# Altium schematic symbol library mcu_stm32.SchLib: 42 symbols (part 5 of 5)
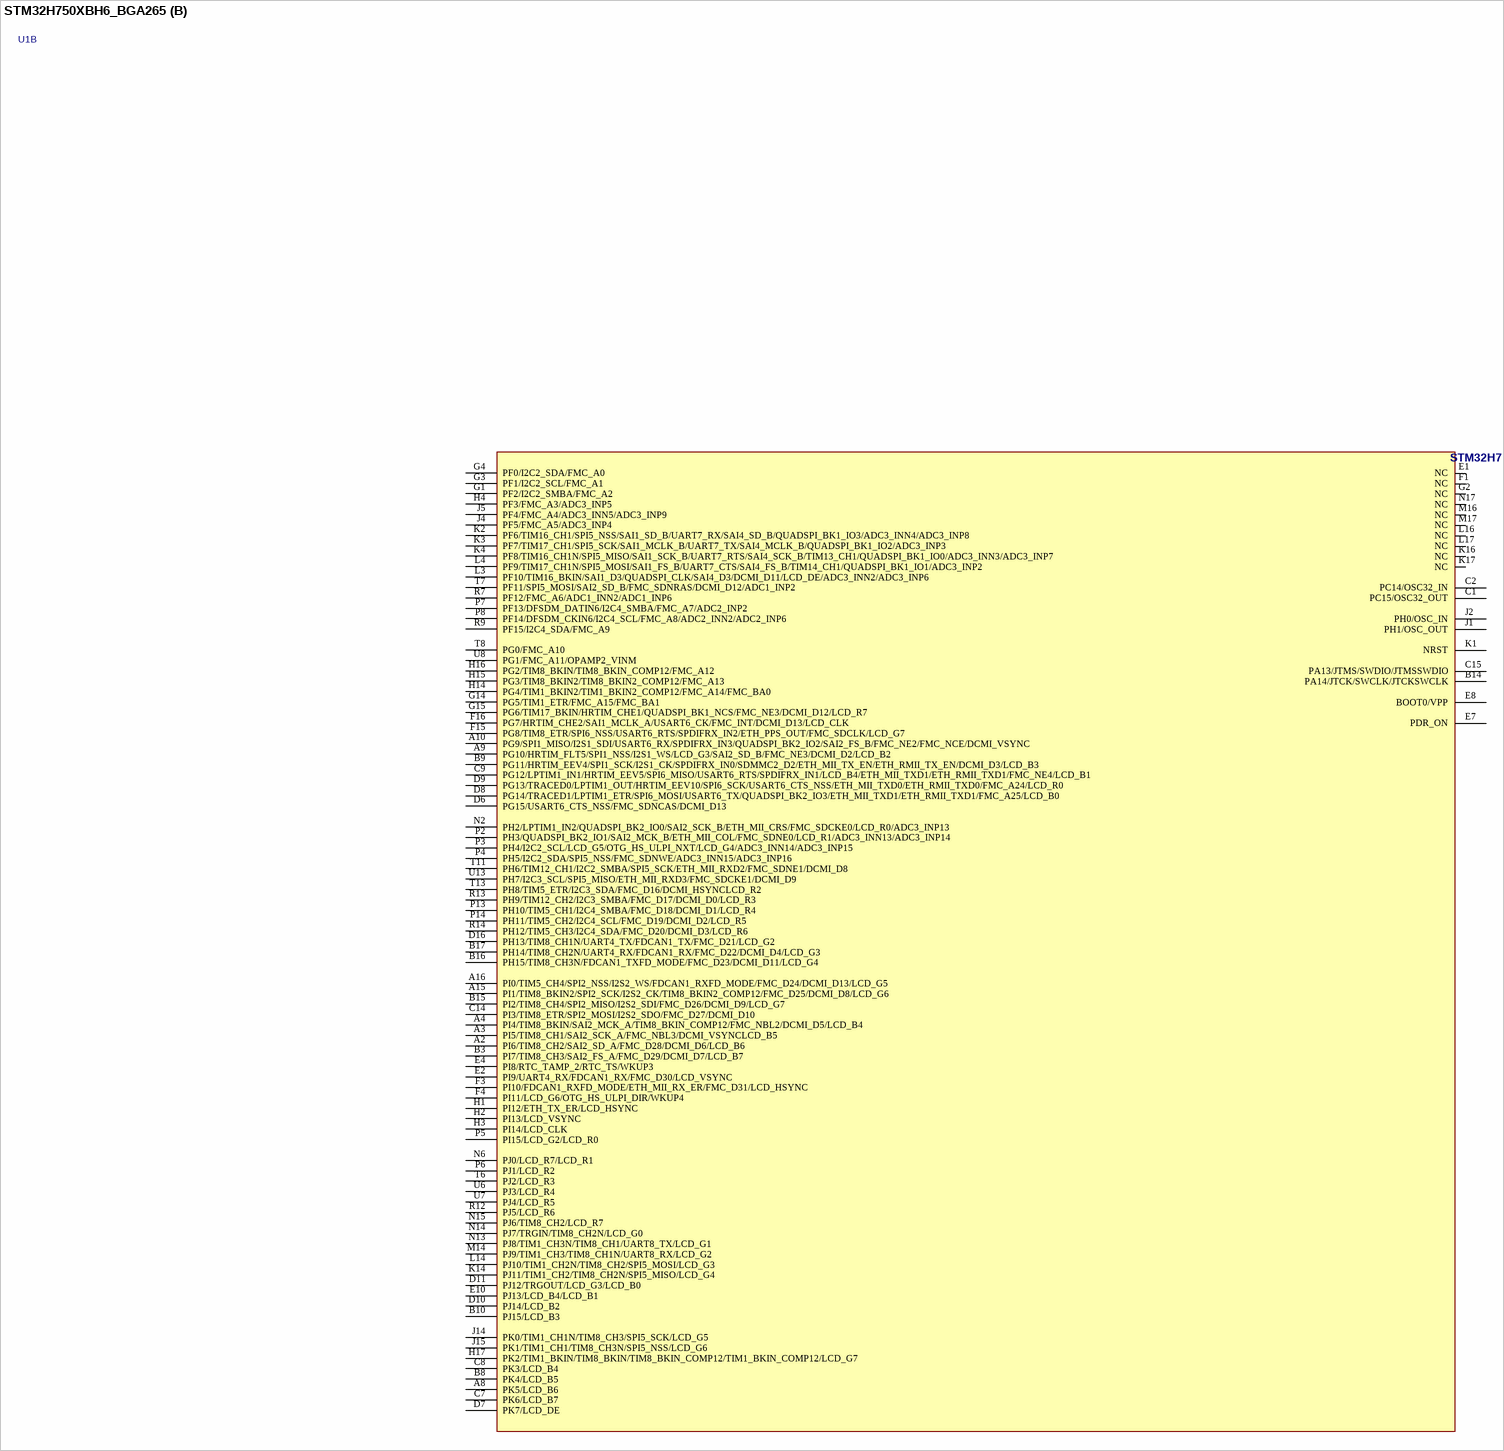
[diagram p33: symbol STM32H750XBH6_BGA265]

## STM32H750XBH6_BGA265
designator U1, comment STM32H750  (value not drawn)
MCU, STM32 ARM 32-bit, Cortex M7, 128KB FLASH, 1MB SRAM; DESC: USB_OTG HS/FS, Ethernet, 3 ADCs, DAC, CAN, I2C, SPI, UART, camera, LCD; MANF: ST; MANF_P#: STM32H750XBH6; PARAM2: 2~3.6VCC, 400MHz, 3X16Bit 4.5MSPS ADC, 2X12Bit 1MHz DAC; PARAM: 2MB FLASH, 1MB SRAM, -40~105oC; PRICE: 11$; VALUE: STM32H750; PACKAGE: BGA-265
footprint BGA80_265_S14 (TFBGA240+25, pitch 0.8mm, 14x14x1.1mm)
part A pins: A1 VSS, A5 PB5/TIM17_BKIN/TIM3_CH2/HRTIM_EEV7/I2C1_SMBA/SPI1_MOSI/I2S1_SDO/I2C4_SMBA/SPI3_MOSI/I2S3_SDO/SPI6_MOSI/FDCAN2_RX/OTG_HS_ULPI_D7/ETH_PPS_OUT/FMC_SDCKE1/DCMI_D10/UART5_RX, A6 VDDLDO, A7 VCAP, A11 PD5/HRTIM_EEV3/USART2_TX/FDCAN1_TXFD_MODE/FMC_NWE, A12 PD4/HRTIM_FLT3/SAI3_FS_A/USART2_RTS/FDCAN1_RXFD_MODE/FMC_NOE, A13 PC10/HRTIM_EEV1/DFSDM_CKIN5/SPI3_SCK/I2S3_CK/USART3_TX/UART4_TX/QUADSPI_BK1_IO1/SDMMC1_D2/DCMI_D8/LCD_R2, A14 PA15/JTDI/JTDI/TIM2_CH1/TIM2_ETR/HRTIM_FLT1/HDMI_CEC/SPI1_NSS/I2S1_WS/SPI3_NSS/I2S3_WS/SPI6_NSS/UART4_RTS/UART7_TX, A17 VSS, B1 VBAT, B2 VSS, B4 PE1/LPTIM1_IN2/HRTIM_SCOUT/UART8_TX/FDCAN1_TXFD_MODE/FMC_NBL1/DCMI_D3, B5 PB6/TIM16_CH1N/TIM4_CH1/HRTIM_EEV8/I2C1_SCL/HDMI_CEC/I2C4_SCL/USART1_TX/LPUART1_TX/FDCAN2_TX/QUADSPI_BK1_NCS/DFSDM_DATIN5/FMC_SDNE1/DCMI_D5/UART5_TX, B6 VSS, B7 PB4/NJTRST/NJTRST/TIM16_BKIN/TIM3_CH1/HRTIM_EEV6/SPI1_MISO/I2S1_SDI/SPI3_MISO/I2S3_SDI/SPI2_NSS/I2S2_WS/SPI6_MISO/SDMMC2_D3/UART7_TX, B11 PD6/SAI1_D1/DFSDM_CKIN4/DFSDM_DATIN1/SPI3_MOSI/I2S3_SDO/SAI1_SD_A/USART2_RX/SAI4_SD_A/FDCAN2_RXFD_MODE/SAI4_D1/SDMMC2_CK/FMC_NWAIT/DCMI_D10/LCD_B2, B12 PD3/DFSDM_CKOUT/SPI2_SCK/I2S2_CK/USART2_CTS_NSS/FMC_CLK/DCMI_D5/LCD_G7, B13 PC11/HRTIM_FLT2/DFSDM_DATIN5/SPI3_MISO/I2S3_SDI/USART3_RX/UART4_RX/QUADSPI_BK2_NCS/SDMMC1_D3/DCMI_D4, C3 PE2/TRACECLK/SAI1_CK1/SPI4_SCK/SAI1_MCLK_A/SAI4_MCLK_A/QUADSPI_BK1_IO2/SAI4_CK1/ETH_MII_TXD3/FMC_A23, C4 PE0/LPTIM1_ETR/TIM4_ETR/HRTIM_SCIN/LPTIM2_ETR/UART8_RX/FDCAN1_RXFD_MODE/SAI2_MCK_A/FMC_NBL0/DCMI_D2, C5 PB7/TIM17_CH1N/TIM4_CH2/HRTIM_EEV9/I2C1_SDA/I2C4_SDA/USART1_RX/LPUART1_RX/FDCAN2_TXFD_MODE/DFSDM_CKIN5/FMC_NL/DCMI_VSYNCPVD_IN, C6 PB3/JTDO/TRACESWO/JTDO/TRACESWO/TIM2CH2/HRTIM_FLT4/SPI1_SCK/I2S1_CK/SPI3_SCK/I2S3_CK/SPI6_SCK/SDMMC2_D2/UART7_RX, C10 VSS, C11 PD7/DFSDM_DATIN4/SPI1_MOSI/I2S1_SDO/DFSDM_CKIN1/USART2_CK/SPDIFRX_IN0/SDMMC2_CMD/FMC_NE1, C12 PC12/TRACED3/HRTIM_EEV2/SPI3_MOSI/I2S3_SDO/USART3_CK/UART5_TX/SDMMC1_CK/DCMI_D9, C13 VSS, C16 VSS, C17 VDDLDO, D1 PE5/TRACED2/SAI1_CK2/DFSDM_CKIN3/TIM15_CH1/SPI4_MISO/SAI1_SCK_A/SAI4_SCK_A/SAI4_CK2/FMC_A21/DCMI_D6/LCD_G0, D2 PE4/TRACED1/SAI1_D2/DFSDM_DATIN3/TIM15_CH1N/SPI4_NSS/SAI1_FS_A/SAI4_FS_A/SAI4_D2/FMC_A20/DCMI_D4/LCD_B0, D3 PE3/TRACED0/TIM15_BKIN/SAI1_SD_B/SAI4_SD_B/FMC_A19, D4 PB9/TIM17_CH1/TIM4_CH4/DFSDM_DATIN7/I2C1_SDA/SPI2_NSS/I2S2_WS/I2C4_SDA/SDMMC1_CDIR/UART4_TX/FDCAN1_TX/SDMMC2_D5/I2C4_SMBA/SDMMC1_D5/DCMI_D7/LCD_B7, D5 PB8/TIM16_CH1/TIM4_CH3/DFSDM_CKIN7/I2C1_SCL/I2C4_SCL/SDMMC1_CKIN/UART4_RX/FDCAN1_RX/SDMMC2_D4/ETH_MII_TXD3/SDMMC1_D4/DCMI_D6/LCD_B6, D12 PD2/TRACED2/TIM3_ETR/UART5_RX/SDMMC1_CMD/DCMI_D11, D13 PD0/DFSDM_CKIN6/SAI3_SCK_A/UART4_RX/FDCAN1_RX/FMC_D2/FMC_DA2, D14 PA10/TIM1_CH3/HRTIM_CHC2/LPUART1_RX/USART1_RX/FDCAN1_TXFD_MODE/OTG_FS_ID/MDIOS_MDIO/LCD_B4/DCMI_D1/LCD_B1, D15 PA9/TIM1_CH2/HRTIM_CHC1/LPUART1_TX/I2C3_SMBA/SPI2_SCK/I2S2_CK/USART1_TX/FDCAN1_RXFD_MODE/ETH_TX_ER/DCMI_D0/LCD_R5/OTG_FS_VBUS, D17 VCAP, E3 PC13/RTC_TAMP_1/RTC_TS/WKUP2, E5 PE6/TRACED3/TIM1_BKIN2/SAI1_D1/TIM15_CH2/SPI4_MOSI/SAI1_SD_A/SAI4_SD_A/SAI4_D1/SAI2_MCK_B/TIM1_BKIN2_COMP12/FMC_A22/DCMI_D7/LCD_G1, E6 VDD, E9 VDD, E11 VDD, E12 PD1/DFSDM_DATIN6/SAI3_SD_A/UART4_TX/FDCAN1_TX/FMC_D3/FMC_DA3, E13 PC8/TRACED1/HRTIM_CHB1/TIM3_CH3/TIM8_CH3/USART6_CK/UART5_RTS/FMC_NE2/FMC_NCE/SWPMI_RX/SDMMC1_D0/DCMI_D2, E14 PC9/MCO2/TIM3_CH4/TIM8_CH4/I2C3_SDA/I2S_CKIN/UART5_CTS/QUADSPI_BK1_IO0/LCD_G3/SWPMI_SUSPEND/SDMMC1_D1/DCMI_D3/LCD_B2, E15 PA8/MCO1/TIM1_CH1/HRTIM_CHB2/TIM8_BKIN2/I2C3_SCL/USART1_CK/OTG_FS_SOF/UART7_RX/TIM8_BKIN2_COMP12/LCD_B3/LCD_R6, E16 PA12/TIM1_ETR/HRTIM_CHD2/LPUART1_RTS/SPI2_SCK/I2S2_CK/UART4_TX/USART1_RTS/SAI2_FS_B/FDCAN1_TX/OTG_FS_DP/LCD_R5, E17 PA11/TIM1_CH4/HRTIM_CHD1/LPUART1_CTS/SPI2_NSS/I2S2_WS/UART4_RX/USART1_CTS_NSS/FDCAN1_RX/OTG_FS_DM/LCD_R4, F2 VSS, F5 VDD, F13 PC7/TRGIO/HRTIM_CHA2/TIM3_CH2/TIM8_CH2/DFSDM_DATIN3/I2S3_MCK/USART6_RX/SDMMC1_D123DIR/FMC_NE1/SDMMC2_D7/SWPMI_TX/SDMMC1_D7/DCMI_D1/LCD_G6, F14 PC6/HRTIM_CHA1/TIM3_CH1/TIM8_CH1/DFSDM_CKIN3/I2S2_MCK/USART6_TX/SDMMC1_D0DIR/FMC_NWAIT/SDMMC2_D6/SDMMC1_D6/DCMI_D0/LCD_HSYNCSWPMI_IO, F17 VDD33USB, G5 VDD, G7 VSS, G8 VSS, G9 VSS, G10 VSS, G11 VSS, G13 VDD, G16 VSS, G17 VDD50USB, H5 VDD, H7 VSS, H8 VSS, H9 VSS, H10 VSS, H11 VSS, H13 VDD, J3 VSS, J7 VSS, J8 VSS, J9 VSS, J10 VSS, J11 VSS, J13 VDD, J16 VSS, J17 VSS, K5 VDD, K7 VSS, K8 VSS, K9 VSS, K10 VSS, K11 VSS, K13 VDD, K15 VSS, L1 VDDA, L2 PC0/DFSDM_CKIN0/DFSDM_DATIN4/SAI2_FS_B/OTG_HS_ULPI_STP/FMC_SDNWE/LCD_R5/ADC123_INP10, L5 VDD, L7 VSS, L8 VSS, L9 VSS, L10 VSS, L11 VSS, L13 VDD, L15 VSS, M1 VREF+, M2 PC1/TRACED0/SAI1_D1/DFSDM_DATIN0/DFSDM_CKIN4/SPI2_MOSI/I2S2_SDO/SAI1_SD_A/SAI4_SD_A/SDMMC2_CK/SAI4_D1/ETH_MDC/MDIOS_MDC/ADC123_INN10/ADC123_INP11/RTC_TAMP_3/WKUP5, M3 PC2/DFSDM_CKIN1/SPI2_MISO/I2S2_SDI/DFSDM_CKOUT/OTG_HS_ULPI_DIR/ETH_MII_TXD2/FMC_SDNE0/ADC123_INN11/ADC123_INP12, M4 PC3/DFSDM_DATIN1/SPI2_MOSI/I2S2_SDO/OTG_HS_ULPI_NXT/ETH_MII_TX_CLK/FMC_SDCKE0/ADC12_INN12/ADC12_INP13, M5 VDD, M13 VDD, M15 VSS, N1 VREF-, N3 PA2/TIM2_CH3/TIM5_CH3/LPTIM4_OUT/TIM15_CH1/USART2_TX/SAI2_SCK_B/ETH_MDIO/MDIOS_MDIO/LCD_R1/ADC12_INP14/WKUP1, N4 PA1/TIM2_CH2/TIM5_CH2/LPTIM3_OUT/TIM15_CH1N/USART2_RTS/UART4_RX/QUADSPI_BK1_IO3/SAI2_MCK_B/ETH_MII_RX_CLK/ETH_RMII_REF_CLK/LCD_R2/ADC1_INN16/ADC1_INP17, N5 PA0/TIM2_CH1/TIM2_ETR/TIM5_CH1/TIM8_ETR/TIM15_BKIN/USART2_CTS_NSS/UART4_TX/SDMMC2_CMD/SAI2_SD_B/ETH_MII_CRS/ADC1_INP16/WKUP0, N7 VDD, N8 VDD, N9 PE10/TIM1_CH2N/DFSDM_DATIN4/UART7_CTS/QUADSPI_BK2_IO3/FMC_D7/FMC_DA7/COMP_2_INM, N10 VDD, N11 VDD, N12 VDD, N16 VSS, P1 VSSA, P9 PE9/TIM1_CH1/DFSDM_CKOUT/UART7_RTS/QUADSPI_BK2_IO2/FMC_D6/FMC_DA6/OPAMP2_VINP/COMP_2_INP, P10 PE11/TIM1_CH2/DFSDM_CKIN4/SPI4_NSS/SAI2_SD_B/FMC_D8/FMC_DA8/LCD_G3/COMP_2_INP, P11 PB10/TIM2_CH3/HRTIM_SCOUT/LPTIM2_IN1/I2C2_SCL/SPI2_SCK/I2S2_CK/DFSDM_DATIN7/USART3_TX/QUADSPI_BK1_NCS/OTG_HS_ULPI_D3/ETH_MII_RX_ER/LCD_G4, P12 PB11/TIM2_CH4/HRTIM_SCIN/LPTIM2_ETR/I2C2_SDA/DFSDM_CKIN7/USART3_RX/OTG_HS_ULPI_D4/ETH_MII_TX_EN/ETH_RMII_TX_EN/LCD_G5, P15 PD15/TIM4_CH4/SAI3_MCLK_A/UART8_RTS/FMC_D1/FMC_DA1, P16 PD14/TIM4_CH3/SAI3_MCLK_B/UART8_CTS/FMC_D0/FMC_DA0, P17 VDD, R1 PC2_C/ADC3_INN1/ADC3_INP0, R2 PC3_C/ADC3_INP1, R3 PA6/TIM1_BKIN/TIM3_CH1/TIM8_BKIN/SPI1_MISO/I2S1_SDI/SPI6_MISO/TIM13_CH1/TIM8_BKIN_COMP12/MDIOS_MDC/TIM1_BKIN_COMP12/DCMI_PIXCLK/LCD_G2/ADC12_INP3, R4 VSS, R5 PA7/TIM1_CH1N/TIM3_CH2/TIM8_CH1N/SPI1_MOSI/I2S1_SDO/SPI6_MOSI/TIM14_CH1/ETH_MII_RX_DV/ETH_RMII_CRS_DV/FMC_SDNWE/ADC12_INN3/ADC12_INP7/OPAMP1_VINM, R6 PB2/SAI1_D1/DFSDM_CKIN1/SAI1_SD_A/SPI3_MOSI/I2S3_SDO/SAI4_SD_A/QUADSPI_CLK/SAI4_D1/ETH_TX_ER/COMP_1_INP/RTC_OUT, R8 VSS, R10 PE12/TIM1_CH3N/DFSDM_DATIN5/SPI4_SCK/SAI2_SCK_B/FMC_D9/FMC_DA9/COMP_1_OUT/LCD_B4, R11 PE15/TIM1_BKIN/HDMI__TIM1_BKIN/FMC_D12/FMC_DA12/TIM1_BKIN_COMP12/LCD_R7, R15 PD11/LPTIM2_IN2/I2C4_SMBA/USART3_CTS_NSS/QUADSPI_BK1_IO0/SAI2_SD_A/FMC_A16, R16 PD12/LPTIM1_IN1/TIM4_CH1/LPTIM2_IN1/I2C4_SCL/USART3_RTS/QUADSPI_BK1_IO1/SAI2_FS_A/FMC_A17, R17 PD13/LPTIM1_OUT/TIM4_CH2/I2C4_SDA/QUADSPI_BK1_IO3/SAI2_SCK_A/FMC_A18, T1 PA0_C/ADC12_INN1/ADC12_INP0, T2 PA1_C/ADC12_INP1, T3 PA5/TIM2_CH1/TIM2_ETR/TIM8_CH1N/SPI1_SCK/I2S1_CK/SPI6_SCK/OTG_HS_ULPI_CK/LCD_R4/ADC12_INN18/ADC12_INP19/DAC1_OUT2, T4 PC4/DFSDM_CKIN2/I2S1_MCK/SPDIFRX_IN2/ETH_MII_RXD0/ETH_RMII_RXD0/FMC_SDNE0/ADC12_INP4/OPAMP1_VOUT/COMP_1_INM, T5 PB1/TIM1_CH3N/TIM3_CH4/TIM8_CH3N/DFSDM_DATIN1/LCD_R6/OTG_HS_ULPI_D2/ETH_MII_RXD3/LCD_G0/ADC12_INP5/COMP_1_INM, T9 PE8/TIM1_CH1N/DFSDM_CKIN2/UART7_TX/QUADSPI_BK2_IO1/FMC_D5/FMC_DA5/COMP_2_OUT/OPAMP2_VINM, T10 PE13/TIM1_CH3/DFSDM_CKIN5/SPI4_MISO/SAI2_FS_B/FMC_D10/FMC_DA10/COMP_2_OUT/LCD_DE, T12 VSS, T14 PB12/TIM1_BKIN/I2C2_SMBA/SPI2_NSS/I2S2_WS/DFSDM_DATIN1/USART3_CK/FDCAN2_RX/OTG_HS_ULPI_D5/ETH_MII_TXD0/ETH_RMII_TXD0/OTG_HS_ID/TIM1_BKIN_COMP12/UART5_RX, T15 PB15/RTC_REFIN/TIM1_CH3N/TIM12_CH2/TIM8_CH3N/USART1_RX/SPI2_MOSI/I2S2_SDO/DFSDM_CKIN2/UART4_CTS/SDMMC2_D1/OTG_HS_DP, T16 PD10/DFSDM_CKOUT/SAI3_FS_B/USART3_CK/FDCAN2_TXFD_MODE/FMC_D15/FMC_DA15/LCD_B3, T17 PD9/DFSDM_DATIN3/SAI3_SD_B/USART3_RX/FDCAN2_RXFD_MODE/FMC_D14/FMC_DA14, U1 VSS, U2 PA3/TIM2_CH4/TIM5_CH4/LPTIM5_OUT/TIM15_CH2/USART2_RX/LCD_B2/OTG_HS_ULPI_D0/ETH_MII_COL/LCD_B5/ADC12_INP15, U3 PA4/TIM5_ETR/SPI1_NSS/I2S1_WS/SPI3_NSS/I2S3_WS/USART2_CK/SPI6_NSS/OTG_HS_SOF/DCMI_HSYNCLCD_VSYNCADC12_INP18/DAC1_OUT1, U4 PC5/SAI1_D3/DFSDM_DATIN2/SPDIFRX_IN3/SAI4_D3/ETH_MII_RXD1/ETH_RMII_RXD1/FMC_SDCKE0/COMP_1_OUT/ADC12_INN4/ADC12_INP8/OPAMP1_VINM, U5 PB0/TIM1_CH2N/TIM3_CH3/TIM8_CH2N/DFSDM_CKOUT/UART4_CTS/LCD_R3/OTG_HS_ULPI_D1/ETH_MII_RXD2/LCD_G1/ADC12_INN5/ADC12_INP9/OPAMP1_VINP/COMP_1_INP, U9 PE7/TIM1_ETR/DFSDM_DATIN2/UART7_RX/QUADSPI_BK2_IO0/FMC_D4/FMC_DA4/OPAMP2_VOUT/COMP_2_INM, U10 PE14/TIM1_CH4/SPI4_MOSI/SAI2_MCK_B/FMC_D11/FMC_DA11/LCD_CLK, U11 VCAP, U12 VDDLDO, U14 PB13/TIM1_CH1N/LPTIM2_OUT/SPI2_SCK/I2S2_CK/DFSDM_CKIN1/USART3_CTS_NSS/FDCAN2_TX/OTG_HS_ULPI_D6/ETH_MII_TXD1/ETH_RMII_TXD1/UART5_TX/OTG_HS_VBUS, U15 PB14/TIM1_CH2N/TIM12_CH1/TIM8_CH2N/USART1_TX/SPI2_MISO/I2S2_SDI/DFSDM_DATIN2/USART3_RTS/UART4_RTS/SDMMC2_D0/OTG_HS_DM, U16 PD8/DFSDM_CKIN3/SAI3_SCK_B/USART3_TX/SPDIFRX_IN1/FMC_D13/FMC_DA13, U17 VSS
part B pins: A2 PI6/TIM8_CH2/SAI2_SD_A/FMC_D28/DCMI_D6/LCD_B6, A3 PI5/TIM8_CH1/SAI2_SCK_A/FMC_NBL3/DCMI_VSYNCLCD_B5, A4 PI4/TIM8_BKIN/SAI2_MCK_A/TIM8_BKIN_COMP12/FMC_NBL2/DCMI_D5/LCD_B4, A8 PK5/LCD_B6, A9 PG10/HRTIM_FLT5/SPI1_NSS/I2S1_WS/LCD_G3/SAI2_SD_B/FMC_NE3/DCMI_D2/LCD_B2, A10 PG9/SPI1_MISO/I2S1_SDI/USART6_RX/SPDIFRX_IN3/QUADSPI_BK2_IO2/SAI2_FS_B/FMC_NE2/FMC_NCE/DCMI_VSYNC, A15 PI1/TIM8_BKIN2/SPI2_SCK/I2S2_CK/TIM8_BKIN2_COMP12/FMC_D25/DCMI_D8/LCD_G6, A16 PI0/TIM5_CH4/SPI2_NSS/I2S2_WS/FDCAN1_RXFD_MODE/FMC_D24/DCMI_D13/LCD_G5, B3 PI7/TIM8_CH3/SAI2_FS_A/FMC_D29/DCMI_D7/LCD_B7, B8 PK4/LCD_B5, B9 PG11/HRTIM_EEV4/SPI1_SCK/I2S1_CK/SPDIFRX_IN0/SDMMC2_D2/ETH_MII_TX_EN/ETH_RMII_TX_EN/DCMI_D3/LCD_B3, B10 PJ15/LCD_B3, B14 PA14/JTCK/SWCLK/JTCKSWCLK, B15 PI2/TIM8_CH4/SPI2_MISO/I2S2_SDI/FMC_D26/DCMI_D9/LCD_G7, B16 PH15/TIM8_CH3N/FDCAN1_TXFD_MODE/FMC_D23/DCMI_D11/LCD_G4, B17 PH14/TIM8_CH2N/UART4_RX/FDCAN1_RX/FMC_D22/DCMI_D4/LCD_G3, C1 PC15/OSC32_OUT, C2 PC14/OSC32_IN, C7 PK6/LCD_B7, C8 PK3/LCD_B4, C9 PG12/LPTIM1_IN1/HRTIM_EEV5/SPI6_MISO/USART6_RTS/SPDIFRX_IN1/LCD_B4/ETH_MII_TXD1/ETH_RMII_TXD1/FMC_NE4/LCD_B1, C14 PI3/TIM8_ETR/SPI2_MOSI/I2S2_SDO/FMC_D27/DCMI_D10, C15 PA13/JTMS/SWDIO/JTMSSWDIO, D6 PG15/USART6_CTS_NSS/FMC_SDNCAS/DCMI_D13, D7 PK7/LCD_DE, D8 PG14/TRACED1/LPTIM1_ETR/SPI6_MOSI/USART6_TX/QUADSPI_BK2_IO3/ETH_MII_TXD1/ETH_RMII_TXD1/FMC_A25/LCD_B0, D9 PG13/TRACED0/LPTIM1_OUT/HRTIM_EEV10/SPI6_SCK/USART6_CTS_NSS/ETH_MII_TXD0/ETH_RMII_TXD0/FMC_A24/LCD_R0, D10 PJ14/LCD_B2, D11 PJ12/TRGOUT/LCD_G3/LCD_B0, D16 PH13/TIM8_CH1N/UART4_TX/FDCAN1_TX/FMC_D21/LCD_G2, E1 NC, E2 PI9/UART4_RX/FDCAN1_RX/FMC_D30/LCD_VSYNC, E4 PI8/RTC_TAMP_2/RTC_TS/WKUP3, E7 PDR_ON, E8 BOOT0/VPP, E10 PJ13/LCD_B4/LCD_B1, F1 NC, F3 PI10/FDCAN1_RXFD_MODE/ETH_MII_RX_ER/FMC_D31/LCD_HSYNC, F4 PI11/LCD_G6/OTG_HS_ULPI_DIR/WKUP4, F15 PG8/TIM8_ETR/SPI6_NSS/USART6_RTS/SPDIFRX_IN2/ETH_PPS_OUT/FMC_SDCLK/LCD_G7, F16 PG7/HRTIM_CHE2/SAI1_MCLK_A/USART6_CK/FMC_INT/DCMI_D13/LCD_CLK, G1 PF2/I2C2_SMBA/FMC_A2, G2 NC, G3 PF1/I2C2_SCL/FMC_A1, G4 PF0/I2C2_SDA/FMC_A0, G14 PG5/TIM1_ETR/FMC_A15/FMC_BA1, G15 PG6/TIM17_BKIN/HRTIM_CHE1/QUADSPI_BK1_NCS/FMC_NE3/DCMI_D12/LCD_R7, H1 PI12/ETH_TX_ER/LCD_HSYNC, H2 PI13/LCD_VSYNC, H3 PI14/LCD_CLK, H4 PF3/FMC_A3/ADC3_INP5, H14 PG4/TIM1_BKIN2/TIM1_BKIN2_COMP12/FMC_A14/FMC_BA0, H15 PG3/TIM8_BKIN2/TIM8_BKIN2_COMP12/FMC_A13, H16 PG2/TIM8_BKIN/TIM8_BKIN_COMP12/FMC_A12, H17 PK2/TIM1_BKIN/TIM8_BKIN/TIM8_BKIN_COMP12/TIM1_BKIN_COMP12/LCD_G7, J1 PH1/OSC_OUT, J2 PH0/OSC_IN, J4 PF5/FMC_A5/ADC3_INP4, J5 PF4/FMC_A4/ADC3_INN5/ADC3_INP9, J14 PK0/TIM1_CH1N/TIM8_CH3/SPI5_SCK/LCD_G5, J15 PK1/TIM1_CH1/TIM8_CH3N/SPI5_NSS/LCD_G6, K1 NRST, K2 PF6/TIM16_CH1/SPI5_NSS/SAI1_SD_B/UART7_RX/SAI4_SD_B/QUADSPI_BK1_IO3/ADC3_INN4/ADC3_INP8, K3 PF7/TIM17_CH1/SPI5_SCK/SAI1_MCLK_B/UART7_TX/SAI4_MCLK_B/QUADSPI_BK1_IO2/ADC3_INP3, K4 PF8/TIM16_CH1N/SPI5_MISO/SAI1_SCK_B/UART7_RTS/SAI4_SCK_B/TIM13_CH1/QUADSPI_BK1_IO0/ADC3_INN3/ADC3_INP7, K14 PJ11/TIM1_CH2/TIM8_CH2N/SPI5_MISO/LCD_G4, K16 NC, K17 NC, L3 PF10/TIM16_BKIN/SAI1_D3/QUADSPI_CLK/SAI4_D3/DCMI_D11/LCD_DE/ADC3_INN2/ADC3_INP6, L4 PF9/TIM17_CH1N/SPI5_MOSI/SAI1_FS_B/UART7_CTS/SAI4_FS_B/TIM14_CH1/QUADSPI_BK1_IO1/ADC3_INP2, L14 PJ10/TIM1_CH2N/TIM8_CH2/SPI5_MOSI/LCD_G3, L16 NC, L17 NC, M14 PJ9/TIM1_CH3/TIM8_CH1N/UART8_RX/LCD_G2, M16 NC, M17 NC, N2 PH2/LPTIM1_IN2/QUADSPI_BK2_IO0/SAI2_SCK_B/ETH_MII_CRS/FMC_SDCKE0/LCD_R0/ADC3_INP13, N6 PJ0/LCD_R7/LCD_R1, N13 PJ8/TIM1_CH3N/TIM8_CH1/UART8_TX/LCD_G1, N14 PJ7/TRGIN/TIM8_CH2N/LCD_G0, N15 PJ6/TIM8_CH2/LCD_R7, N17 NC, P2 PH3/QUADSPI_BK2_IO1/SAI2_MCK_B/ETH_MII_COL/FMC_SDNE0/LCD_R1/ADC3_INN13/ADC3_INP14, P3 PH4/I2C2_SCL/LCD_G5/OTG_HS_ULPI_NXT/LCD_G4/ADC3_INN14/ADC3_INP15, P4 PH5/I2C2_SDA/SPI5_NSS/FMC_SDNWE/ADC3_INN15/ADC3_INP16, P5 PI15/LCD_G2/LCD_R0, P6 PJ1/LCD_R2, P7 PF13/DFSDM_DATIN6/I2C4_SMBA/FMC_A7/ADC2_INP2, P8 PF14/DFSDM_CKIN6/I2C4_SCL/FMC_A8/ADC2_INN2/ADC2_INP6, P13 PH10/TIM5_CH1/I2C4_SMBA/FMC_D18/DCMI_D1/LCD_R4, P14 PH11/TIM5_CH2/I2C4_SCL/FMC_D19/DCMI_D2/LCD_R5, R7 PF12/FMC_A6/ADC1_INN2/ADC1_INP6, R9 PF15/I2C4_SDA/FMC_A9, R12 PJ5/LCD_R6, R13 PH9/TIM12_CH2/I2C3_SMBA/FMC_D17/DCMI_D0/LCD_R3, R14 PH12/TIM5_CH3/I2C4_SDA/FMC_D20/DCMI_D3/LCD_R6, T6 PJ2/LCD_R3, T7 PF11/SPI5_MOSI/SAI2_SD_B/FMC_SDNRAS/DCMI_D12/ADC1_INP2, T8 PG0/FMC_A10, T11 PH6/TIM12_CH1/I2C2_SMBA/SPI5_SCK/ETH_MII_RXD2/FMC_SDNE1/DCMI_D8, T13 PH8/TIM5_ETR/I2C3_SDA/FMC_D16/DCMI_HSYNCLCD_R2, U6 PJ3/LCD_R4, U7 PJ4/LCD_R5, U8 PG1/FMC_A11/OPAMP2_VINM, U13 PH7/I2C3_SCL/SPI5_MISO/ETH_MII_RXD3/FMC_SDCKE1/DCMI_D9
part A text: STM32H750_TFBGA240+25   Part1
part B text: STM32H750_TFBGA240+25   Part2

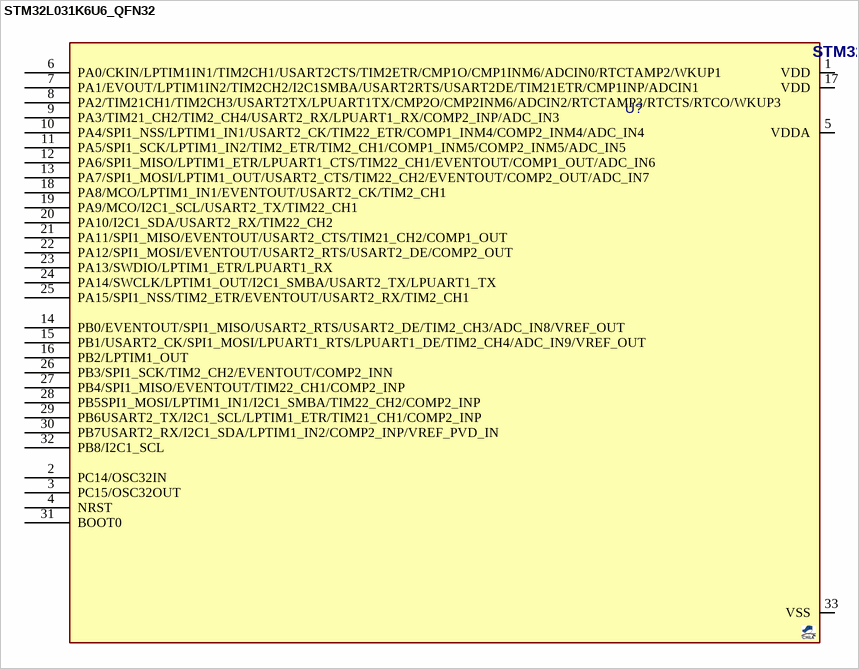
[diagram p29: symbol STM32L031K6U6_QFN32]

## STM32L031K6U6_QFN32
designator U?, comment STM32L031  (value not drawn)
MCU, STM32 ARM 32-bit, Cortex-M0, 32KB Flash, 8KB SRAM; MANF: ST; MANF_P#: STM32L031K6U6; PARAM: 32KB FLASH, 8KB SRAM, -40~85oC; VALUE: STM32L031; PACKAGE: UFQFPN-32
footprint QFN50_32T (HVQFN32, UFQFPN32, QFN-32, RGJ, 5X5X0.9mm, 0.5mm)
pins: 1 VDD, 2 PC14/OSC32IN, 3 PC15/OSC32OUT, 4 NRST, 5 VDDA, 6 PA0/CKIN/LPTIM1IN1/TIM2CH1/USART2CTS/TIM2ETR/CMP1O/CMP1INM6/ADCIN0/RTCTAMP2/WKUP1, 7 PA1/EVOUT/LPTIM1IN2/TIM2CH2/I2C1SMBA/USART2RTS/USART2DE/TIM21ETR/CMP1INP/ADCIN1, 8 PA2/TIM21CH1/TIM2CH3/USART2TX/LPUART1TX/CMP2O/CMP2INM6/ADCIN2/RTCTAMP3/RTCTS/RTCO/WKUP3, 9 PA3/TIM21_CH2/TIM2_CH4/USART2_RX/LPUART1_RX/COMP2_INP/ADC_IN3, 10 PA4/SPI1_NSS/LPTIM1_IN1/USART2_CK/TIM22_ETR/COMP1_INM4/COMP2_INM4/ADC_IN4, 11 PA5/SPI1_SCK/LPTIM1_IN2/TIM2_ETR/TIM2_CH1/COMP1_INM5/COMP2_INM5/ADC_IN5, 12 PA6/SPI1_MISO/LPTIM1_ETR/LPUART1_CTS/TIM22_CH1/EVENTOUT/COMP1_OUT/ADC_IN6, 13 PA7/SPI1_MOSI/LPTIM1_OUT/USART2_CTS/TIM22_CH2/EVENTOUT/COMP2_OUT/ADC_IN7, 14 PB0/EVENTOUT/SPI1_MISO/USART2_RTS/USART2_DE/TIM2_CH3/ADC_IN8/VREF_OUT, 15 PB1/USART2_CK/SPI1_MOSI/LPUART1_RTS/LPUART1_DE/TIM2_CH4/ADC_IN9/VREF_OUT, 16 PB2/LPTIM1_OUT, 17 VDD, 18 PA8/MCO/LPTIM1_IN1/EVENTOUT/USART2_CK/TIM2_CH1, 19 PA9/MCO/I2C1_SCL/USART2_TX/TIM22_CH1, 20 PA10/I2C1_SDA/USART2_RX/TIM22_CH2, 21 PA11/SPI1_MISO/EVENTOUT/USART2_CTS/TIM21_CH2/COMP1_OUT, 22 PA12/SPI1_MOSI/EVENTOUT/USART2_RTS/USART2_DE/COMP2_OUT, 23 PA13/SWDIO/LPTIM1_ETR/LPUART1_RX, 24 PA14/SWCLK/LPTIM1_OUT/I2C1_SMBA/USART2_TX/LPUART1_TX, 25 PA15/SPI1_NSS/TIM2_ETR/EVENTOUT/USART2_RX/TIM2_CH1, 26 PB3/SPI1_SCK/TIM2_CH2/EVENTOUT/COMP2_INN, 27 PB4/SPI1_MISO/EVENTOUT/TIM22_CH1/COMP2_INP, 28 PB5SPI1_MOSI/LPTIM1_IN1/I2C1_SMBA/TIM22_CH2/COMP2_INP, 29 PB6USART2_TX/I2C1_SCL/LPTIM1_ETR/TIM21_CH1/COMP2_INP, 30 PB7USART2_RX/I2C1_SDA/LPTIM1_IN2/COMP2_INP/VREF_PVD_IN, 31 BOOT0, 32 PB8/I2C1_SCL, 33 VSS
text: STM32L031 UFQFPN32